# EAGLE library part 690368191072 (library WR-MM)
WR-MM Female Connector with Latch & w/o Polarization Material Properties Insulator Material PBT Insulator Flammability Rating UL94 V-0 Insulator Color Red Contact Material Phosphor Bronze Contact Plating Matte Tin over Nickel Contact Type Stamped Packaging Properties cULus Approval E323964 Packaging Tube General Information Operating Temperature -40 °C up to +105 °C Pitch 2.54 mm Gender Female Electrical Properties Working Voltage 250 V (AC) Withstanding Voltage 500 V (AC) Contact Resistance 10 mΩ RISO 1000 MΩ <https://www.we-online.com/components/media/o33164v209%20Multi-WR-MM-69036819xx72.jpg> Details see: www.we-online.com/en/components/products/MM_1_27_FEMALE_ANGLED_CONNECTOR_WITH_LATCH_AND_POLARIZATION_69036819XX72_2 <www.we-online.com/catalog/MM_1_27_FEMALE_ANGLED_CONNECTOR_WITH_LATCH_AND_POLARIZATION_69036819XX72_2/?utm_source=eagle_model&utm_medium=description_link&utm_campaign=eisos_eagle> Updated by Ella 2025-02-28 2025 (C) Würth Elektronik
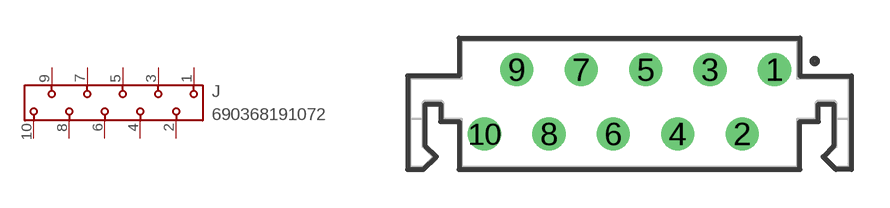
[diagram p16: symbol with the pads of 690368191072; footprint 690368191072]

Designator prefix J

## 690368191072 (DATASHEET-URL: https://www.we-online.com/redexpert/spec/690368191072?ae; GENDER: Female; IR: 1.5A; PACKAGING: Tube; PART-NUMBER: 690368191072; PINS: 10; PITCH: 2.54; TYPE: Angled; VALUE: 690368191072)  [690368191072]
1  1  pas
2  2  pas
3  3  pas
4  4  pas
5  5  pas
6  6  pas
7  7  pas
8  8  pas
9  9  pas
10  10  pas

## Footprint 690368191072 (pad centres in mm)
WR-MM Female Angled Connector with Latch & w. Polarization, 10 Pins
drill 0.8: 1 5.715,1.27; 2 4.445,-1.27; 3 3.175,1.27; 4 1.905,-1.27; 5 0.635,1.27; 6 -0.635,-1.27; 7 -1.905,1.27; 8 -3.175,-1.27; 9 -4.445,1.27; 10 -5.715,-1.27